# Altium footprint library Unclassified Device.PcbLib: 1 footprints
Each footprint in its own frame and in the unit in brackets; x right, y up, seen from the top. Pads: shape width x height; smd on the part's side, far side on the other; paste and mask are expansions set on the pad; w line width, h text height; cw(c..) or ccw(c..) is an arc to the next point about the centre after c.
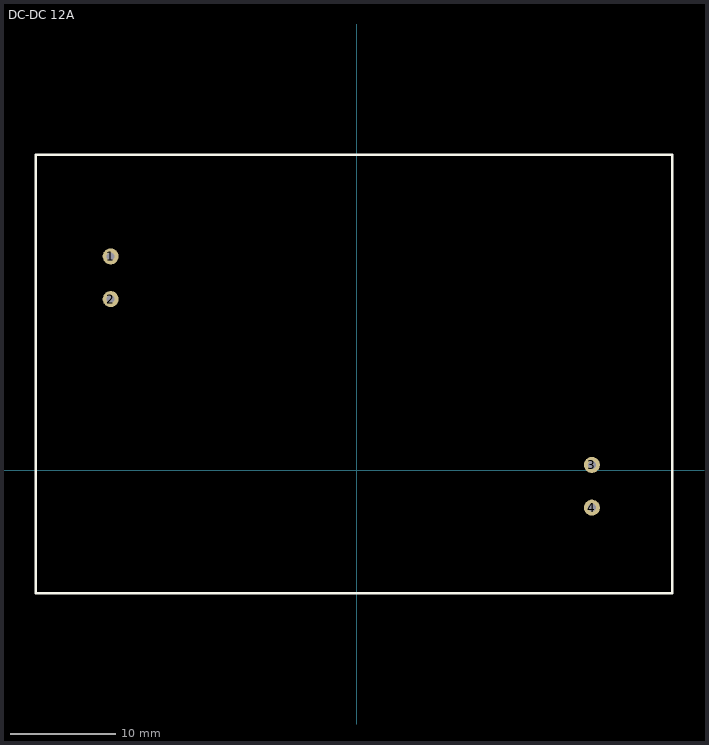
[diagram p0: the footprint, top view; thin cyan lines are the x and y axes]

## DC-DC 12A [mil]
pads (4):
  round 60 hole 30: 1(-920,800) 2(-920,640) 3(880,20) 4(880,-140)
Top Overlay:
  lines w10: -1200,-460 1180,-460 1180,1180 -1200,1180 -1200,-460
3D body "DC to DC.STEP": height 692.91, standoff -149.61, extent -1180,-604.25 1182.2,1364.25